# Altium schematic symbol library Microcontrollers.SchLib: 9 symbols
Pins are listed as number, name and electrical type; pins without a type are passive.

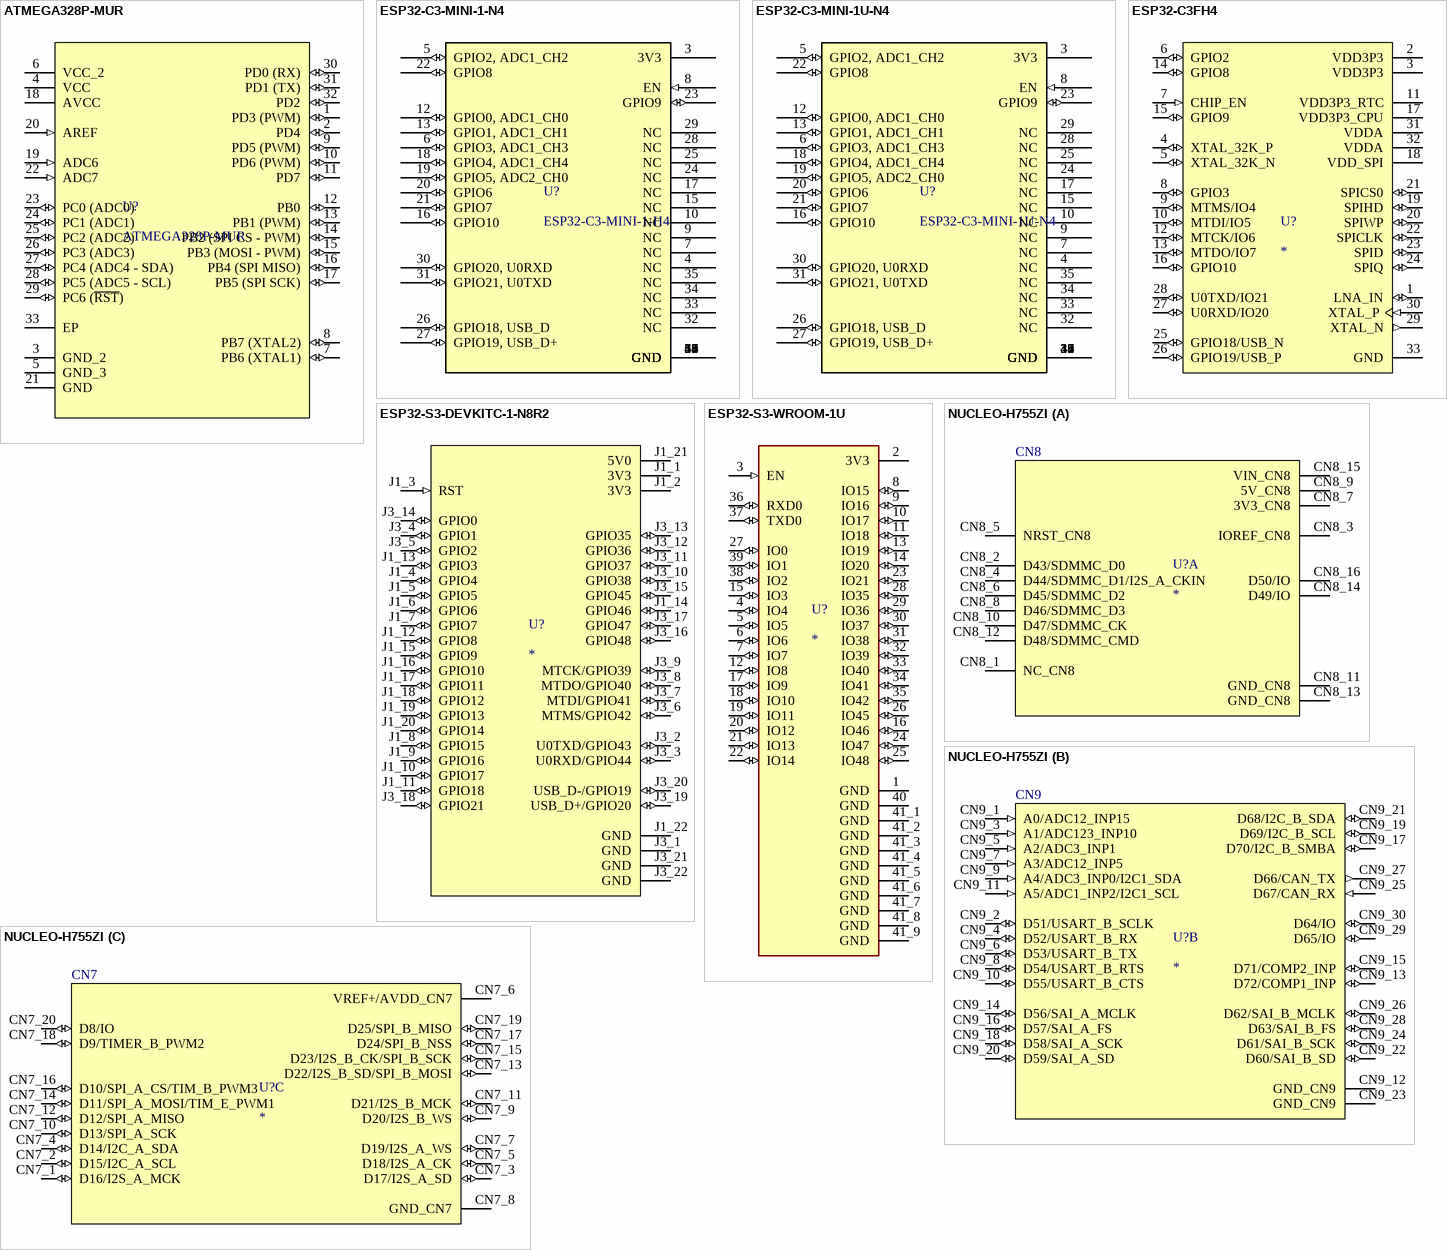
[diagram p0: symbols ATMEGA328P-MUR to NUCLEO-H755ZI]

## ATMEGA328P-MUR
designator U?
AVR AVR® ATmega Microcontroller IC 8-Bit 20MHz 32KB (16K x 16) FLASH 32-VQFN (5x5); Supplier 1: Digikey; Supplier Part Number 1: ATMEGA328P-MURTR-ND; RefDes: RefDes; Type: Type; HelpURL: https://ww1.microchip.com/downloads/en/DeviceDoc/ATmega48A-PA-88A-PA-168A-PA-328-P-DS-DS40002061B.pdf
footprint VFQFN-32 Exposed Pad
pins: 1 PD3 (PWM) (io), 2 PD4 (io), 3 GND_2, 4 VCC (power), 5 GND_3, 6 VCC_2 (power), 7 PB6 (XTAL1) (io), 8 PB7 (XTAL2) (io), 9 PD5 (PWM) (io), 10 PD6 (PWM) (io), 11 PD7 (io), 12 PB0 (io), 13 PB1 (PWM) (io), 14 PB2 (SPI CS - PWM) (io), 15 PB3 (MOSI - PWM) (io), 16 PB4 (SPI MISO) (io), 17 PB5 (SPI SCK) (io), 18 AVCC (power), 19 ADC6 (in), 20 AREF (in), 21 GND, 22 ADC7 (in), 23 PC0 (ADC0) (io), 24 PC1 (ADC1) (io), 25 PC2 (ADC2) (io), 26 PC3 (ADC3) (io), 27 PC4 (ADC4 - SDA) (io), 28 PC5 (ADC5 - SCL) (io), 29 PC6 (~{RST}) (io), 30 PD0 (RX) (io), 31 PD1 (TX) (io), 32 PD2 (io), 33 EP

## ESP32-C3-MINI-1-N4
designator U?, comment ESP32-C3-MINI-1-H4
Bluetooth, WiFi 802.11b/g/n, Bluetooth v5.0 Transceiver Module 2.412GHz ~ 2.484GHz PCB Trace Surface Mount; Mfr_Name: Espressif Systems; Manufacturer_Part_Number: ESP32-C3-MINI-1-N4; Copyright: Copyright (C) 2023 Ultra Librarian. All rights reserved.; RefDes: RefDes; Type: Type; Datasheet: https://www.espressif.com/sites/default/files/documentation/esp32-c3-mini-1_datasheet_en.pdf
footprint ESP32-C3-MINI-1_EXP
pins: 1 GND, 2 GND, 3 3V3 (power), 4 NC, 5 GPIO2, ADC1_CH2 (io), 6 GPIO3, ADC1_CH3 (io), 7 NC, 8 EN (in), 9 NC, 10 NC, 11 GND, 12 GPIO0, ADC1_CH0 (io), 13 GPIO1, ADC1_CH1 (io), 14 GND, 15 NC, 16 GPIO10 (io), 17 NC, 18 GPIO4, ADC1_CH4 (io), 19 GPIO5, ADC2_CH0 (io), 20 GPIO6 (io), 21 GPIO7 (io), 22 GPIO8 (io), 23 GPIO9 (io), 24 NC, 25 NC, 26 GPIO18, USB_D (io), 27 GPIO19, USB_D+ (io), 28 NC, 29 NC, 30 GPIO20, U0RXD (io), 31 GPIO21, U0TXD (io), 32 NC, 33 NC, 34 NC, 35 NC, 36 GND, 37 GND, 38 GND, 39 GND, 40 GND, 41 GND, 42 GND, 43 GND, 44 GND, 45 GND, 46 GND, 47 GND, 48 GND, 49 GND, 50 GND, 51 GND, 52 GND, 53 GND, 54 GND, 55 GND, 56 GND, 57 GND, 58 GND, 59 GND, 60 GND, 61 GND

## ESP32-C3-MINI-1U-N4
designator U?
Bluetooth, WiFi 802.11b/g/n, Bluetooth v5.0 Transceiver Module 2.412GHz ~ 2.484GHz Antenna Not Included, U.FL Surface Mount; Mfr_Name: Espressif Systems; Copyright: Copyright (C) 2023 Ultra Librarian. All rights reserved.; Manufacturer_Part_Number: ESP32-C3-MINI-1U-N4; RefDes: RefDes; Type: Type; Datasheet: https://www.espressif.com/sites/default/files/documentation/esp32-c3-mini-1_datasheet_en.pdf; Supplier Part Number 1: ESP32-C3-MINI-1U-N4; JLCPCB Part Number: C2911374
footprint ESP32-C3-MINI-1U-N4
pins: 1 GND, 2 GND, 3 3V3 (power), 4 NC, 5 GPIO2, ADC1_CH2 (io), 6 GPIO3, ADC1_CH3 (io), 7 NC, 8 EN (in), 9 NC, 10 NC, 11 GND, 12 GPIO0, ADC1_CH0 (io), 13 GPIO1, ADC1_CH1 (io), 14 GND, 15 NC, 16 GPIO10 (io), 17 NC, 18 GPIO4, ADC1_CH4 (io), 19 GPIO5, ADC2_CH0 (io), 20 GPIO6 (io), 21 GPIO7 (io), 22 GPIO8 (io), 23 GPIO9 (io), 24 NC, 25 NC, 26 GPIO18, USB_D (io), 27 GPIO19, USB_D+ (io), 28 NC, 29 NC, 30 GPIO20, U0RXD (io), 31 GPIO21, U0TXD (io), 32 NC, 33 NC, 34 NC, 35 NC, 36 GND, 37 GND, 38 GND, 39 GND, 40 GND, 41 GND, 42 GND, 43 GND, 44 GND, 45 GND, 46 GND, 47 GND, 48 GND, 49 GND

## ESP32-C3FH4
designator U?
Bluetooth, WiFi 802.11b/g/n, Bluetooth v5.0 Transceiver Module 2.402GHz ~ 2.48GHz Antenna Not Included Surface Mount; Manufacturer Part Number: ESP32-C3FH4; MF: Espressif Systems; Check_prices: https://www.snapeda.com/parts/ESP32-C3FH4/Espressif%20Systems/view-part/5881917/?ref=eda; Availability: In Stock; Value: *; Price: None; Purchase-URL: https://pricing.snapeda.com/search/part/ESP32-C3FH4/?ref=eda; Package: VFQFN-32 Espressif Systems; SnapEDA_Link: https://www.snapeda.com/parts/ESP32-C3FH4/Espressif%20Systems/view-part/5881917/?ref=snap; Supplier Part Number 1: 1904-ESP32-C3FH4CT-ND
footprint VFQFN-32 Exposed Pad
pins: 1 LNA_IN (io), 2 VDD3P3 (power), 3 VDD3P3 (power), 4 XTAL_32K_P (io), 5 XTAL_32K_N (io), 6 GPIO2 (io), 7 CHIP_EN (in), 8 GPIO3 (io), 9 MTMS/IO4 (io), 10 MTDI/IO5 (io), 11 VDD3P3_RTC (power), 12 MTCK/IO6 (io), 13 MTDO/IO7 (io), 14 GPIO8 (io), 15 GPIO9 (io), 16 GPIO10 (io), 17 VDD3P3_CPU (power), 18 VDD_SPI (power), 19 SPIHD (io), 20 SPIWP (io), 21 SPICS0 (io), 22 SPICLK (io), 23 SPID (io), 24 SPIQ (io), 25 GPIO18/USB_N (io), 26 GPIO19/USB_P (io), 27 U0RXD/IO20 (io), 28 U0TXD/IO21 (io), 29 XTAL_N (out), 30 XTAL_P (in), 31 VDDA (power), 32 VDDA (power), 33 GND (power)

## ESP32-S3-DEVKITC-1-N8R2
designator U?
WiFi Development Tools - 802.11 (Engineering Samples Only) ESP32-S3 General-Purpose Development Board, ESP32-S3-WROOM-1-N8R2, with Pin Header; MF: Espressif Systems; MP: ESP32-S3-DEVKITC-1-N8R2; SnapEDA_Link: https://www.snapeda.com/parts/ESP32-S3-DEVKITC-1-N8R2/Espressif+Systems/view-part/?ref=snap; Package: None; Value: *; Check_prices: https://www.snapeda.com/parts/ESP32-S3-DEVKITC-1-N8R2/Espressif+Systems/view-part/?ref=eda
footprint XCVR_ESP32-S3-DEVKITC-1-N8R2
pins: J1_1 3V3 (power), J1_2 3V3 (power), J1_3 RST (in), J1_4 GPIO4 (io), J1_5 GPIO5 (io), J1_6 GPIO6 (io), J1_7 GPIO7 (io), J1_8 GPIO15 (io), J1_9 GPIO16 (io), J1_10 GPIO17 (io), J1_11 GPIO18 (io), J1_12 GPIO8 (io), J1_13 GPIO3 (io), J1_14 GPIO46 (io), J1_15 GPIO9 (io), J1_16 GPIO10 (io), J1_17 GPIO11 (io), J1_18 GPIO12 (io), J1_19 GPIO13 (io), J1_20 GPIO14 (io), J1_21 5V0 (power), J1_22 GND (power), J3_1 GND (power), J3_2 U0TXD/GPIO43 (io), J3_3 U0RXD/GPIO44 (io), J3_4 GPIO1 (io), J3_5 GPIO2 (io), J3_6 MTMS/GPIO42 (io), J3_7 MTDI/GPIO41 (io), J3_8 MTDO/GPIO40 (io), J3_9 MTCK/GPIO39 (io), J3_10 GPIO38 (io), J3_11 GPIO37 (io), J3_12 GPIO36 (io), J3_13 GPIO35 (io), J3_14 GPIO0 (io), J3_15 GPIO45 (io), J3_16 GPIO48 (io), J3_17 GPIO47 (io), J3_18 GPIO21 (io), J3_19 USB_D+/GPIO20 (io), J3_20 USB_D-/GPIO19 (io), J3_21 GND (power), J3_22 GND (power)

## ESP32-S3-WROOM-1U
designator U?
2.4 GHz Wi-Fi (802.11 b/g/n) and Bluetooth 5 (LE) module; MF: Espressif Systems; MP: ESP32-S3-WROOM-1U; Value: *; Package: Package; Check_prices: https://www.snapeda.com/parts/ESP32-S3-WROOM-1U/Espressif+Systems/view-part/?ref=eda; Price: None; SnapEDA_Link: https://www.snapeda.com/parts/ESP32-S3-WROOM-1U/Espressif+Systems/view-part/?ref=snap; Supplier 1: Digikey; Supplier Part Number 1: 1965-ESP32-S3-WROOM-1U-N8R2CT-ND
footprint XCVR_ESP32-S3-WROOM-1U
pins: 1 GND (power), 2 3V3 (power), 3 EN (in), 4 IO4 (io), 5 IO5 (io), 6 IO6 (io), 7 IO7 (io), 8 IO15 (io), 9 IO16 (io), 10 IO17 (io), 11 IO18 (io), 12 IO8 (io), 13 IO19 (io), 14 IO20 (io), 15 IO3 (io), 16 IO46 (io), 17 IO9 (io), 18 IO10 (io), 19 IO11 (io), 20 IO12 (io), 21 IO13 (io), 22 IO14 (io), 23 IO21 (io), 24 IO47 (io), 25 IO48 (io), 26 IO45 (io), 27 IO0 (io), 28 IO35 (io), 29 IO36 (io), 30 IO37 (io), 31 IO38 (io), 32 IO39 (io), 33 IO40 (io), 34 IO41 (io), 35 IO42 (io), 36 RXD0 (io), 37 TXD0 (io), 38 IO2 (io), 39 IO1 (io), 40 GND (power), 41_1 GND (power), 41_2 GND (power), 41_3 GND (power), 41_4 GND (power), 41_5 GND (power), 41_6 GND (power), 41_7 GND (power), 41_8 GND (power), 41_9 GND (power)

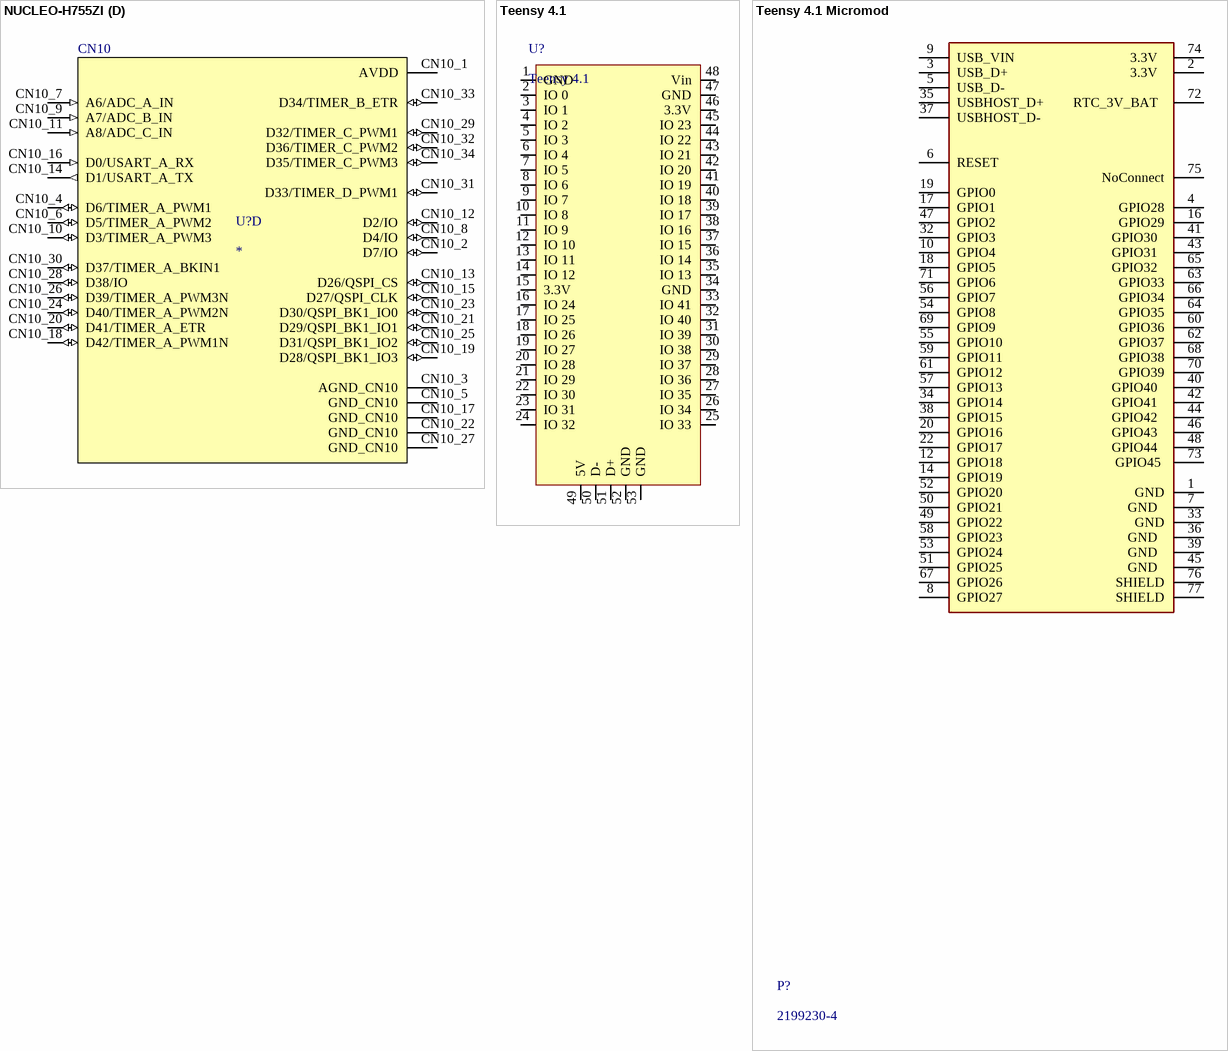
[diagram p1: symbols NUCLEO-H755ZI to Teensy 4.1 Micromod]

## NUCLEO-H755ZI
designator U?
Development Boards & Kits - ARM 16/32-BITS MICROS; MF: STMicroelectronics; MP: NUCLEO-H753ZI; Value: *; Price: None; Package: None; Purchase-URL: https://pricing.snapeda.com/search/part/NUCLEO-H753ZI/?ref=eda; SnapEDA_Link: https://www.snapeda.com/parts/NUCLEO-H753ZI/STMicroelectronics/view-part/?ref=snap; Availability: In Stock; Check_prices: https://www.snapeda.com/parts/NUCLEO-H753ZI/STMicroelectronics/view-part/?ref=eda
footprint NUCLEO-H755ZIQ
part A pins: CN8_1 NC_CN8, CN8_2 D43/SDMMC_D0, CN8_3 IOREF_CN8, CN8_4 D44/SDMMC_D1/I2S_A_CKIN, CN8_5 NRST_CN8, CN8_6 D45/SDMMC_D2, CN8_7 3V3_CN8, CN8_8 D46/SDMMC_D3, CN8_9 5V_CN8, CN8_10 D47/SDMMC_CK, CN8_11 GND_CN8, CN8_12 D48/SDMMC_CMD, CN8_13 GND_CN8, CN8_14 D49/IO, CN8_15 VIN_CN8, CN8_16 D50/IO
part B pins: CN9_1 A0/ADC12_INP15 (in), CN9_2 D51/USART_B_SCLK (io), CN9_3 A1/ADC123_INP10 (in), CN9_4 D52/USART_B_RX (io), CN9_5 A2/ADC3_INP1 (in), CN9_6 D53/USART_B_TX (io), CN9_7 A3/ADC12_INP5 (in), CN9_8 D54/USART_B_RTS (io), CN9_9 A4/ADC3_INP0/I2C1_SDA (in), CN9_10 D55/USART_B_CTS (io), CN9_11 A5/ADC1_INP2/I2C1_SCL (in), CN9_12 GND_CN9 (power), CN9_13 D72/COMP1_INP (io), CN9_14 D56/SAI_A_MCLK (io), CN9_15 D71/COMP2_INP (io), CN9_16 D57/SAI_A_FS (io), CN9_17 D70/I2C_B_SMBA (io), CN9_18 D58/SAI_A_SCK (io), CN9_19 D69/I2C_B_SCL (io), CN9_20 D59/SAI_A_SD (io), CN9_21 D68/I2C_B_SDA (io), CN9_22 D60/SAI_B_SD (io), CN9_23 GND_CN9 (power), CN9_24 D61/SAI_B_SCK (io), CN9_25 D67/CAN_RX (in), CN9_26 D62/SAI_B_MCLK (io), CN9_27 D66/CAN_TX (out), CN9_28 D63/SAI_B_FS (io), CN9_29 D65/IO (io), CN9_30 D64/IO (io)
part C pins: CN7_1 D16/I2S_A_MCK (io), CN7_2 D15/I2C_A_SCL (io), CN7_3 D17/I2S_A_SD (io), CN7_4 D14/I2C_A_SDA (io), CN7_5 D18/I2S_A_CK (io), CN7_6 VREF+/AVDD_CN7 (power), CN7_7 D19/I2S_A_WS (io), CN7_8 GND_CN7 (power), CN7_9 D20/I2S_B_WS (io), CN7_10 D13/SPI_A_SCK (io), CN7_11 D21/I2S_B_MCK (io), CN7_12 D12/SPI_A_MISO (io), CN7_13 D22/I2S_B_SD/SPI_B_MOSI (io), CN7_14 D11/SPI_A_MOSI/TIM_E_PWM1 (io), CN7_15 D23/I2S_B_CK/SPI_B_SCK (io), CN7_16 D10/SPI_A_CS/TIM_B_PWM3 (io), CN7_17 D24/SPI_B_NSS (io), CN7_18 D9/TIMER_B_PWM2 (io), CN7_19 D25/SPI_B_MISO (io), CN7_20 D8/IO (io)
part D pins: CN10_1 AVDD (power), CN10_2 D7/IO (io), CN10_3 AGND_CN10 (power), CN10_4 D6/TIMER_A_PWM1 (io), CN10_5 GND_CN10 (power), CN10_6 D5/TIMER_A_PWM2 (io), CN10_7 A6/ADC_A_IN (in), CN10_8 D4/IO (io), CN10_9 A7/ADC_B_IN (in), CN10_10 D3/TIMER_A_PWM3 (io), CN10_11 A8/ADC_C_IN (in), CN10_12 D2/IO (io), CN10_13 D26/QSPI_CS (io), CN10_14 D1/USART_A_TX (out), CN10_15 D27/QSPI_CLK (io), CN10_16 D0/USART_A_RX (in), CN10_17 GND_CN10 (power), CN10_18 D42/TIMER_A_PWM1N (io), CN10_19 D28/QSPI_BK1_IO3 (io), CN10_20 D41/TIMER_A_ETR (io), CN10_21 D29/QSPI_BK1_IO1 (io), CN10_22 GND_CN10 (power), CN10_23 D30/QSPI_BK1_IO0 (io), CN10_24 D40/TIMER_A_PWM2N (io), CN10_25 D31/QSPI_BK1_IO2 (io), CN10_26 D39/TIMER_A_PWM3N (io), CN10_27 GND_CN10 (power), CN10_28 D38/IO (io), CN10_29 D32/TIMER_C_PWM1 (io), CN10_30 D37/TIMER_A_BKIN1 (io), CN10_31 D33/TIMER_D_PWM1 (io), CN10_32 D36/TIMER_C_PWM2 (io), CN10_33 D34/TIMER_B_ETR (io), CN10_34 D35/TIMER_C_PWM3 (io)
part A text: CN8
part B text: CN9
part C text: CN7
part D text: CN10

## Teensy 4.1
designator U?
Grade: None; Mounted: Yes; Package / Case: Header custom; Supplier 1: Digikey; Supplier Part Number 1: 1568-DEV-16771-ND
footprint Teensy_4.1
pins: 1 GND, 2 IO 0, 3 IO 1, 4 IO 2, 5 IO 3, 6 IO 4, 7 IO 5, 8 IO 6, 9 IO 7, 10 IO 8, 11 IO 9, 12 IO 10, 13 IO 11, 14 IO 12, 15 3.3V, 16 IO 24, 17 IO 25, 18 IO 26, 19 IO 27, 20 IO 28, 21 IO 29, 22 IO 30, 23 IO 31, 24 IO 32, 25 IO 33, 26 IO 34, 27 IO 35, 28 IO 36, 29 IO 37, 30 IO 38, 31 IO 39, 32 IO 40, 33 IO 41, 34 GND, 35 IO 13, 36 IO 14, 37 IO 15, 38 IO 16, 39 IO 17, 40 IO 18, 41 IO 19, 42 IO 20, 43 IO 21, 44 IO 22, 45 IO 23, 46 3.3V, 47 GND, 48 Vin, 49 5V, 50 D-, 51 D+, 52 GND, 53 GND

## Teensy 4.1 Micromod
designator P?, comment 2199230-4
CONN M.2 FMALE 67POS 0.020 GOLD / Représentant le MicroMod Teensy; Supplier 1: Digi-Key; Supplier Part Number 1: A115904TR-ND; Mounted: Yes; Package / Case: TH; Volt: N/A
footprint CONN67_2199230_TEC
pins: 1 GND, 2 3.3V  , 3 USB_D+  , 4 GPIO28, 5 USB_D-  , 6 RESET  , 7 GND  , 8 GPIO27, 9 USB_VIN  , 10 GPIO4, 12 GPIO18, 14 GPIO19, 16 GPIO29, 17 GPIO1, 18 GPIO5, 19 GPIO0, 20 GPIO16, 22 GPIO17, 32 GPIO3, 33 GND, 34 GPIO14, 35 USBHOST_D+  , 36 GND  , 37 USBHOST_D-  , 38 GPIO15, 39 GND  , 40 GPIO40  , 41 GPIO30  , 42 GPIO41  , 43 GPIO31  , 44 GPIO42  , 45 GND  , 46 GPIO43  , 47 GPIO2, 48 GPIO44  , 49 GPIO22  , 50 GPIO21, 51 GPIO25, 52 GPIO20, 53 GPIO24, 54 GPIO8  , 55 GPIO10, 56 GPIO7, 57 GPIO13, 58 GPIO23, 59 GPIO11, 60 GPIO36, 61 GPIO12, 62 GPIO37, 63 GPIO33, 64 GPIO35, 65 GPIO32  , 66 GPIO34, 67 GPIO26 , 68 GPIO38, 69 GPIO9 , 70 GPIO39, 71 GPIO6, 72 RTC_3V_BAT  , 73 GPIO45 , 74 3.3V  , 75 NoConnect, 76 SHIELD, 77 SHIELD